# EAGLE library part 6P (library con-degson)
DEGSON DG55 CONNECTOR
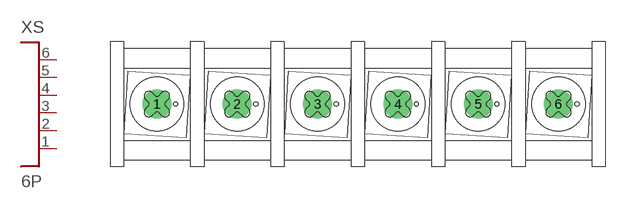
[diagram p0: symbol with the pads of DG55CB-6P-1; footprint DG55CB-6P-1]

Designator prefix XS

## 6P  [DG55CB-6P-1]
1  P$1
2  P$2
3  P$3
4  P$4
5  P$5
6  P$6

## Footprint DG55CB-6P-1 (pad centres in mm)
DG55
drill 1.8 pad 3.6: 1 -25,0; 2 -15,0; 3 -5,0; 4 5,0; 5 15,0; 6 25,0